# Altium footprint library HexaPod - Diode.PcbLib: 3 footprints
Each footprint in its own frame and in the unit in brackets; x right, y up, seen from the top. Pads: shape width x height; smd on the part's side, far side on the other; paste and mask are expansions set on the pad; w line width, h text height; cw(c..) or ccw(c..) is an arc to the next point about the centre after c.
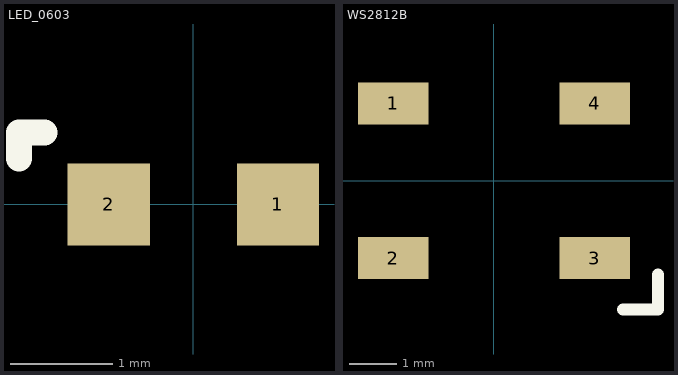
[diagram p0: the footprints below, top view; thin cyan lines are the x and y axes]

## LED_0603 [mm]
pads (2):
  rect 0.8x0.8 smd: 1(0.825,0) 2(-0.825,0)
Top Overlay:
  lines w0.254: -1.7,0.45 -1.7,0.7 -1.45,0.7
3D body "GreenLED.step": height 0.8, standoff 0, extent -0.8,-0.4 0.8,0.4

## PCBComponent_1 [mm]

## WS2812B [mm]
pads (4):
  rect 1.5x0.9 smd: 1(-2.15,1.65) 2(-2.15,-1.65) 3(2.15,-1.65) 4(2.15,1.65)
Top Overlay:
  lines w0.254: 2.75,-2.75 3.5,-2.75 3.5,-2
3D body "WS2812B.step": height 1.3, standoff 0, extent -2.7,-2.5 2.7,2.5